# Altium schematic symbol library Schlib1.SchLib: 4 symbols
Pins are listed as number, name and electrical type; pins without a type are passive.

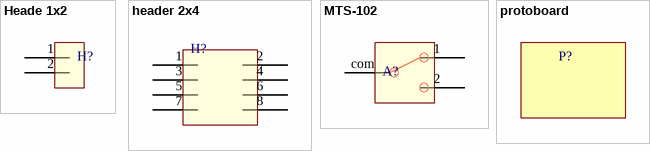
[diagram p0: symbols Heade 1x2 to protoboard]

## Heade 1x2
designator H?, comment header 2x1  (value not drawn)
header male 2 pin; Parameter 1: H2x1; Parameter 2: *
footprint header 2x1 (header male 2x1); pin to pad 1>C1 2>C2
pins: 1, 2

## header 2x4
designator H?  (value not drawn)
header male 2x4; Parameter 1: header 2x4
footprint header 2x4 (header female 2x4); pin to pad 1>C1 2>C2 3>C3 4>C4 5>C5 6>C6 7>C7 8>C8
pins: 1, 2, 3, 4, 5, 6, 7, 8

## MTS-102
designator A?, comment chave MTS-102  (value not drawn)
chave caso seja usadsada sendo encaixada; Parameter 1: MTS-102
footprint MTS-102 (chave MTS-102,)
pins: 1, 2, com 3

## protoboard
designator P?, comment 2 protoboard 830 pin  (value not drawn)
2 protoboard 830 pin  each; Parameter 1: 2X830 pin
footprint PCBComponent_1 (2 protoboad 830 pin each)